# EAGLE library part XR-532AD (library exar)
PULSE DETECTOR
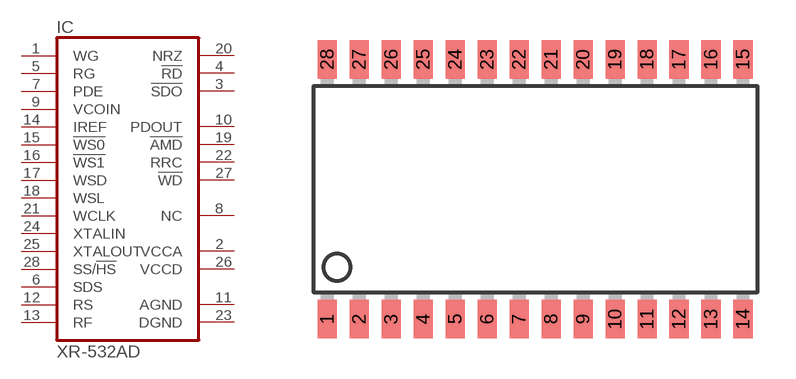
[diagram p103: symbol with the pads of SO-28LD; footprint SO-28LD]

Designator prefix IC

## XR-532AD (OC_FARNELL: unknown; OC_NEWARK: unknown)  [SO-28LD]
1  WG  in
2  VCCA  pwr
3  !SDO
4  !RD
5  RG  in
6  SDS  in
7  PDE  in
8  NC  out
9  VCOIN  in
10  PDOUT  out
11  AGND  pwr
12  RS  in
13  RF  in
14  IREF  in
15  !WS0  in
16  !WS1  in
17  WSD  in
18  WSL  in
19  !AMD  out
20  NRZ
21  WCLK  in
22  RRC  out
23  DGND  pwr
24  XTALIN  in
25  XTALOUT  in
26  VCCD  pwr
27  !WD  out
28  SS/!HS  in

## Footprint SO-28LD (pad centres in mm)
Small Outline Package
smd 0.762 x 1.524: 1 -8.255,-5.156; 2 -6.985,-5.156; 3 -5.715,-5.156; 4 -4.445,-5.156; 5 -3.175,-5.156; 6 -1.905,-5.156; 7 -0.635,-5.156; 8 0.635,-5.156; 9 1.905,-5.156; 10 3.175,-5.156; 11 4.445,-5.156; 12 5.715,-5.156; 13 6.985,-5.156; 14 8.255,-5.156; 15 8.255,5.156; 16 6.985,5.156; 17 5.715,5.156; 18 4.445,5.156; 19 3.175,5.156; 20 1.905,5.156; 21 0.635,5.156; 22 -0.635,5.156; 23 -1.905,5.156; 24 -3.175,5.156; 25 -4.445,5.156; 26 -5.715,5.156; 27 -6.985,5.156; 28 -8.255,5.156